# EAGLE library part NJG1143UA2-TE1 (library NJG1143UA2-TE1)
RF Amplifier Low Noise Amp GaAs MMIC 1.5V to 3.6V Source: Datasheet <https://componentsearchengine.com/Datasheets/1/NJG1143UA2-TE1.pdf>
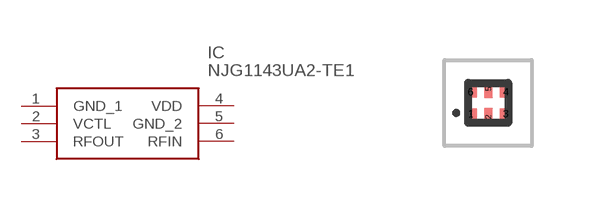
[diagram p0: symbol with the pads of NJG1143UA2TE1; footprint NJG1143UA2TE1]

Designator prefix IC

## NJG1143UA2-TE1 (DESCRIPTION: RF Amplifier Low Noise Amp GaAs MMIC 1.5V to 3.6V; HEIGHT: 0.39mm; MANUFACTURER_NAME: NJR; MANUFACTURER_PART_NUMBER: NJG1143UA2-TE1; MOUSER_PART_NUMBER: 513-NJG1143UA2-TE1; MOUSER_PRICE-STOCK: https://www.mouser.com/Search/Refine.aspx?Keyword=513-NJG1143UA2-TE1)  [NJG1143UA2TE1]
1  GND_1
2  VCTL
3  RFOUT
4  VDD
5  GND_2
6  RFIN

## Footprint NJG1143UA2TE1 (pad centres in mm)
EPFFP6-A2
smd 0.3 x 0.28: 1 -0.44,-0.275; 3 0.44,-0.275; 4 0.44,0.275; 6 -0.44,0.275
smd 0.2 x 0.455: 2 0,-0.352; 5 0,0.352